# Altium schematic symbol library Amplifier_Operational.SchLib: 354 symbols (part 4 of 4)
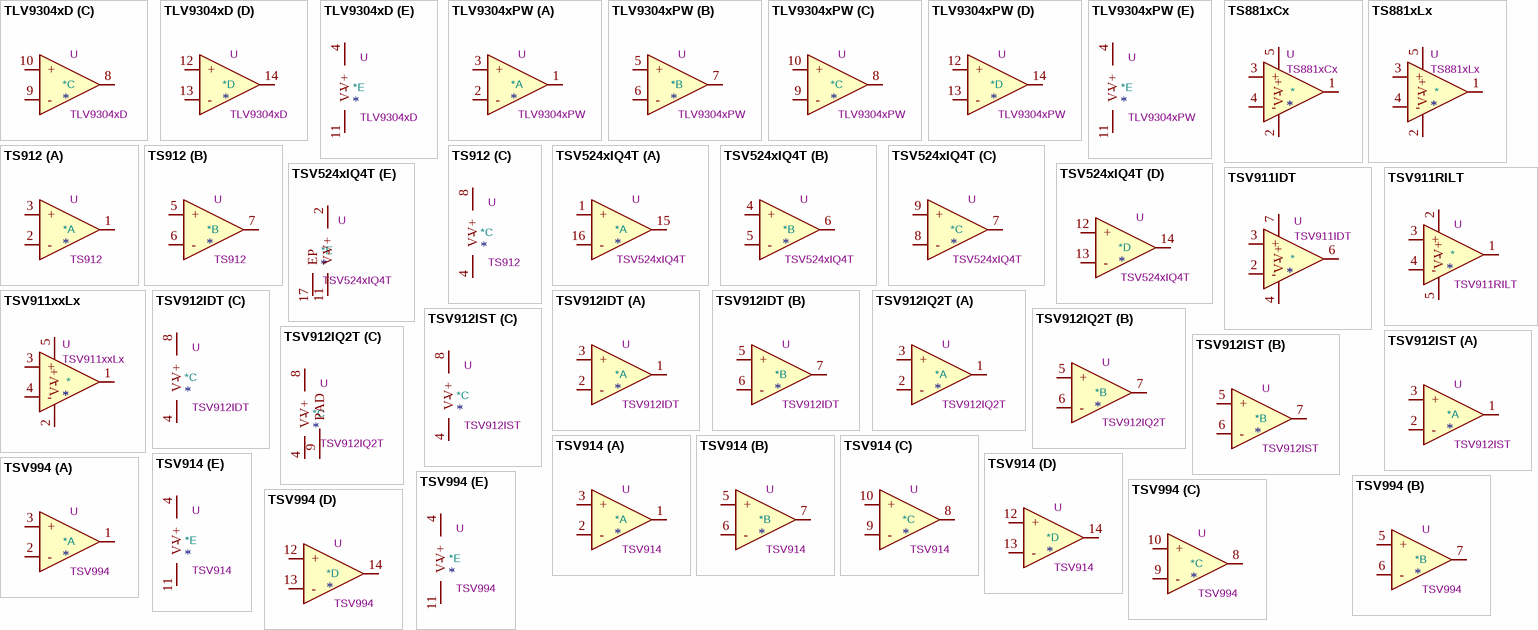
[diagram p22: symbols TLV9304xD to TSV994]

## TSV914
designator *  value TSV914  Reference: U
ki_keywords: quad opamp; ki_description: Quad rail-to-rail input/output 8 MHz operational amplifiers, SOIC-14/TSSOP-14; ki_fp_filters: SOIC*3.9x8.7mm*P1.27mm* DIP*W7.62mm* TSSOP*4.4x5mm*P0.65mm* SSOP*5.3x6.2mm*P0.65mm* MSOP*3x3mm*P0.5mm*; Datasheet: www.st.com/resource/en/datasheet/tsv911.pdf
part A pins: 1, 2 -, 3 +
part B pins: 5 +, 6 -, 7
part C pins: 8, 9 -, 10 +
part D pins: 12 +, 13 -, 14
part E pins: 4 V+, 11 V-

## TSV994
designator *  value TSV994  Reference: U
ki_keywords: quad opamp; ki_description: Quad Rail-to-rail, 20 MHz GBP, operational amplifiers, SOIC-14/TSSOP-14; ki_fp_filters: SOIC*3.9x8.7mm*P1.27mm* DIP*W7.62mm* TSSOP*4.4x5mm*P0.65mm* SSOP*5.3x6.2mm*P0.65mm* MSOP*3x3mm*P0.5mm*; Datasheet: https://www.st.com/resource/en/datasheet/tsv994.pdf
part A pins: 1, 2 -, 3 +
part B pins: 5 +, 6 -, 7
part C pins: 8, 9 -, 10 +
part D pins: 12 +, 13 -, 14
part E pins: 4 V+, 11 V-